# Altium footprint library DCDC_DOSA_SIP.PcbLib: 1 footprints
Each footprint in its own frame and in the unit in brackets; x right, y up, seen from the top. Pads: shape width x height; smd on the part's side, far side on the other; paste and mask are expansions set on the pad; w line width, h text height; cw(c..) or ccw(c..) is an arc to the next point about the centre after c.
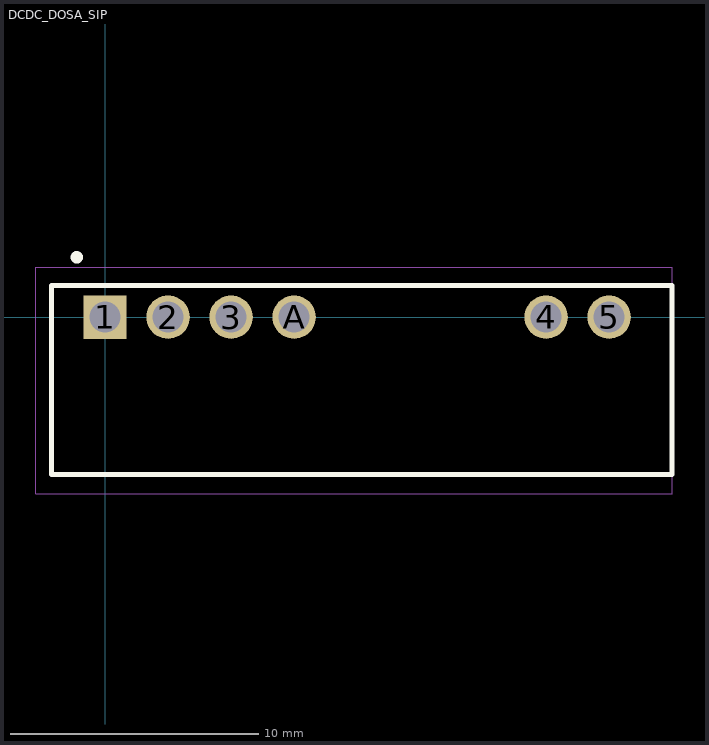
[diagram p0: the footprint, top view; thin cyan lines are the x and y axes]

## DCDC_DOSA_SIP [mm] "Non-Isolated DC/DC Converter, SIP package"
height 12.7
pads (6):
  rect 1.75x1.75 hole 1.25: 1(0,0)
  round 1.75 hole 1.25: 2(2.54,0) 3(5.08,0) 4(17.78,0) 5(20.32,0) A(7.62,0)
Top Overlay:
  circle w0.25: c-1.141,2.413 r0.125
  lines w0.2: -2.16,-6.35 22.86,-6.35 22.86,1.27 -2.16,1.27 -2.16,-6.35
Mechanical 13:
  lines w0.1: -2.16,-6.35 22.86,-6.35 22.86,1.27 -2.16,1.27 -2.16,-6.35
Mechanical 15:
  lines w0.05: -2.79,-7.12 22.86,-7.12 22.86,2.02 -2.79,2.02 -2.79,-7.12
  lines w0.1: 6.985,0 8.255,0 ; 7.62,-0.635 7.62,0.635
3D body "mps_dcdc_okx_t5_d12_a.step": height 10.16, standoff -3.81, extent -1.27,-5.857 21.59,1.25